# EAGLE library part MAX669EUB+ (library MAX669EUB)
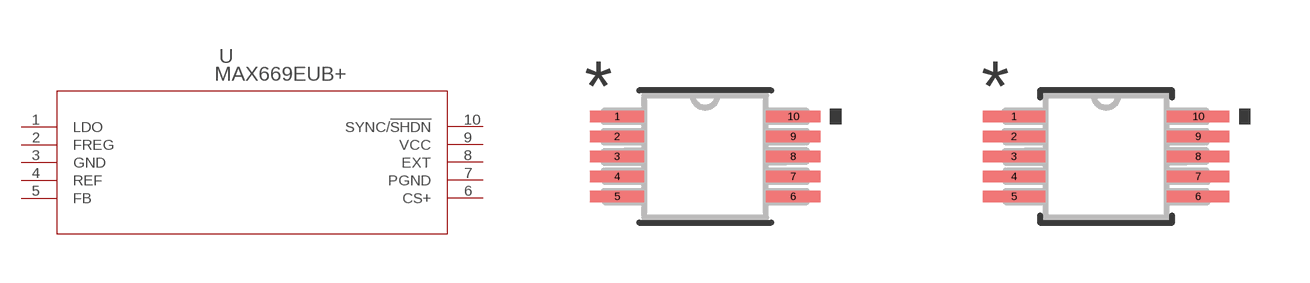
[diagram p0: symbol with the pads of 21-0061L_MXM; footprints 21-0061L_MXM, 21-0061L_MXM-M]

Designator prefix U

## MAX669EUB+ (COPYRIGHT: Copyright (C) 2022 Ultra Librarian. All rights reserved.; DIGI-KEY_PART_NUMBER_1: MAX669EUB+-CRL-ND; DIGI-KEY_PART_NUMBER_2: MAX669EUB+-ND; MANUFACTURER_PART_NUMBER: MAX669EUB+; MFR_NAME: Maxim Integrated Products)  [21-0061L_MXM]
1  LDO  out
2  FREG  in
3  GND  pwr
4  REF  out
5  FB  in
6  CS+  in
7  PGND  pwr
8  EXT  out
9  VCC  pwr
10  SYNC/!SHDN  in

## MAX669EUB+21-0061L_MXM-M (COPYRIGHT: Copyright (C) 2022 Ultra Librarian. All rights reserved.; DIGI-KEY_PART_NUMBER_1: MAX669EUB+-CRL-ND; DIGI-KEY_PART_NUMBER_2: MAX669EUB+-ND; MANUFACTURER_PART_NUMBER: MAX669EUB+; MFR_NAME: Maxim Integrated Products)  [21-0061L_MXM-M]
Pads as for 21-0061L_MXM

## MAX669EUB+21-0061L_MXM-L (COPYRIGHT: Copyright (C) 2022 Ultra Librarian. All rights reserved.; DIGI-KEY_PART_NUMBER_1: MAX669EUB+-CRL-ND; DIGI-KEY_PART_NUMBER_2: MAX669EUB+-ND; MANUFACTURER_PART_NUMBER: MAX669EUB+; MFR_NAME: Maxim Integrated Products)  [21-0061L_MXM-L]
Pads as for 21-0061L_MXM

## Footprint 21-0061L_MXM (pad centres in mm)
smd 1.359 x 0.279: 1 -2.203,1; 2 -2.203,0.5; 3 -2.203,0; 4 -2.203,-0.5; 5 -2.203,-1; 6 2.203,-1; 7 2.203,-0.5; 8 2.203,0; 9 2.203,0.5; 10 2.203,1

## Footprint 21-0061L_MXM-M (pad centres in mm)
smd 1.562 x 0.279: 1 -2.305,1; 2 -2.305,0.5; 3 -2.305,0; 4 -2.305,-0.5; 5 -2.305,-1; 6 2.305,-1; 7 2.305,-0.5; 8 2.305,0; 9 2.305,0.5; 10 2.305,1

## Footprint 21-0061L_MXM-L (pad centres in mm)
smd 1.118 x 0.229: 1 -2.121,1; 2 -2.121,0.5; 3 -2.121,0; 4 -2.121,-0.5; 5 -2.121,-1; 6 2.121,-1; 7 2.121,-0.5; 8 2.121,0; 9 2.121,0.5; 10 2.121,1